# Altium schematic symbol library SN74HC365.Schlib: 1 symbol
Pins are listed as number, name and electrical type; pins without a type are passive.

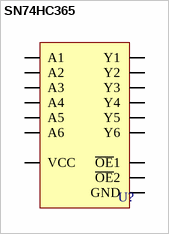
[diagram p0: symbol SN74HC365]

## SN74HC365
designator U?
pins: 1 ~{OE}1, 2 A1, 3 Y1, 4 A2, 5 Y2, 6 A3, 7 Y3, 8 GND, 9 Y4, 10 A4, 11 Y5, 12 A5, 13 Y6, 14 A6, 15 ~{OE}2, 16 VCC
2 alternate drawings of the same symbol